# Altium footprint library LGA-28.PcbLib: 1 footprints
Each footprint in its own frame and in the unit in brackets; x right, y up, seen from the top. Pads: shape width x height; smd on the part's side, far side on the other; paste and mask are expansions set on the pad; w line width, h text height; cw(c..) or ccw(c..) is an arc to the next point about the centre after c.
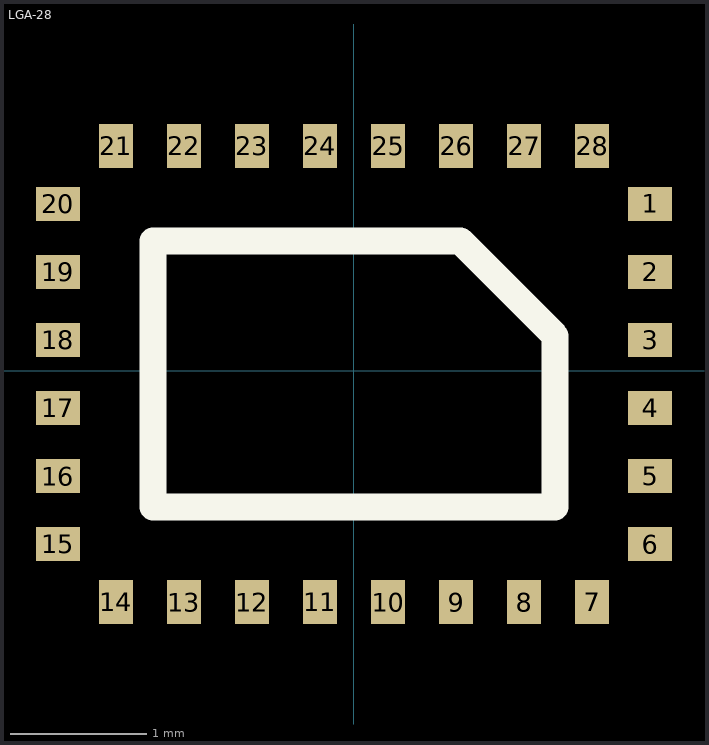
[diagram p0: the footprint, top view; thin cyan lines are the x and y axes]

## LGA-28 [mm]
pads (28):
  rect 0.325x0.25 smd: 1(2.175,1.225) 2(2.175,0.725) 3(2.175,0.225) 4(2.175,-0.275) 5(2.175,-0.775) 6(2.175,-1.275) 15(-2.175,-1.275) 16(-2.175,-0.775) 17(-2.175,-0.275) 18(-2.175,0.225) 19(-2.175,0.725) 20(-2.175,1.225)
  rect 0.25x0.325 smd: 7(1.75,-1.7) 8(1.25,-1.7) 9(0.75,-1.7) 10(0.25,-1.7) 11(-0.25,-1.7) 12(-0.75,-1.7) 13(-1.25,-1.7) 14(-1.75,-1.7) 21(-1.75,1.65) 22(-1.25,1.65) 23(-0.75,1.65) 24(-0.25,1.65) 25(0.25,1.65) 26(0.75,1.65) 27(1.25,1.65) 28(1.75,1.65)
TopOverlay:
  lines w0.2: -1.477,-1.002 -1.477,0.953 0.78,0.953 1.478,0.255 1.478,-1.002 -1.477,-1.002